# Altium footprint library ANT11SF1CQE.PcbLib: 1 footprints
Each footprint in its own frame and in the unit in brackets; x right, y up, seen from the top. Pads: shape width x height; smd on the part's side, far side on the other; paste and mask are expansions set on the pad; w line width, h text height; cw(c..) or ccw(c..) is an arc to the next point about the centre after c.
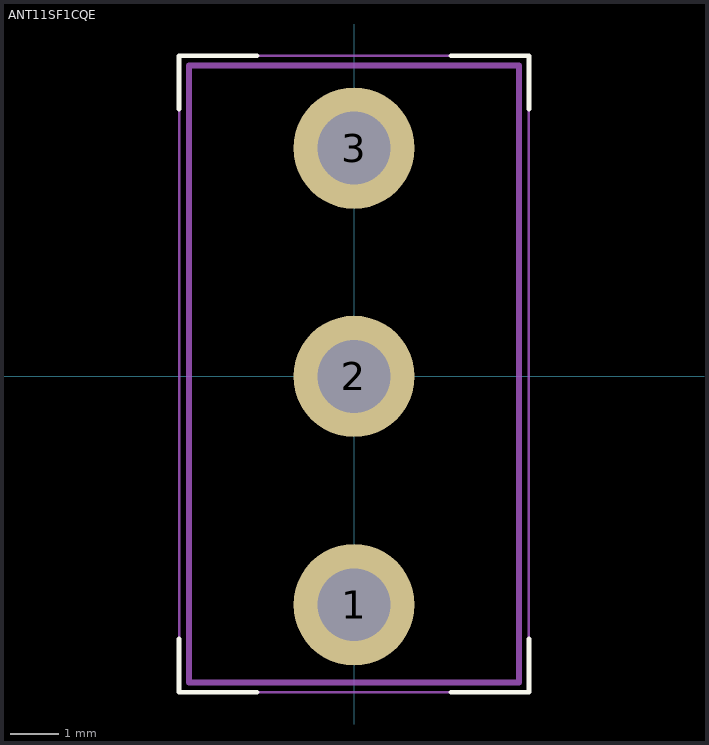
[diagram p0: the footprint, top view; thin cyan lines are the x and y axes]

## ANT11SF1CQE [mm] "Toggle switch, SPDT"
pads (3):
  round 2.5 hole 1.5: 1(0,-4.7) 2(0,0) 3(0,4.7)
Top Overlay:
  lines w0.1: -3.6,-5.4 -3.6,-6.5 -2,-6.5 ; -3.6,5.5 -3.6,6.6 -2,6.6 ; 2,-6.5 3.6,-6.5 3.6,-5.4 ; 2,6.6 3.6,6.6 3.6,5.5
Mechanical 13:
  lines w0.127: -3.4,-6.3 3.4,-6.3 3.4,6.4 -3.4,6.4 -3.4,-6.3
Mechanical 15:
  lines w0.05: -3.6,-6.5 3.6,-6.5 3.6,6.6 -3.6,6.6 -3.6,-6.5
3D body "4-1825136-5.stp": height 28.21, standoff -6.33, extent -3.429,-6.35 3.429,6.35